# EAGLE library part ES8374 (library mastrogippo)
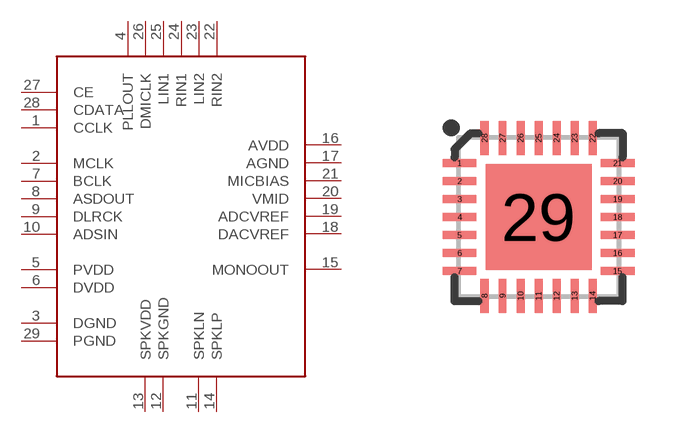
[diagram p39: symbol with the pads of QFNWB-28_4X4; footprint QFNWB-28_4X4]

Designator prefix -

## ES8374  [QFNWB-28_4X4]
1  CCLK
2  MCLK
3  DGND
4  PLLOUT
5  PVDD
6  DVDD
7  BCLK
8  ASDOUT
9  DLRCK
10  ADSIN
11  SPKLN
12  SPKGND
13  SPKVDD
14  SPKLP
15  MONOOUT
16  AVDD
17  AGND
18  DACVREF
19  ADCVREF
20  VMID
21  MICBIAS
22  RIN2
23  LIN2
24  RIN1
25  LIN1
26  DMICLK
27  CE
28  CDATA
29  PGND

## Footprint QFNWB-28_4X4 (pad centres in mm)
smd 0.85 x 0.2: 1 -1.975,1.35; 2 -1.975,0.9; 3 -1.975,0.45; 4 -1.975,0; 5 -1.975,-0.45; 6 -1.975,-0.9; 7 -1.975,-1.35; 15 1.975,-1.35; 16 1.975,-0.9; 17 1.975,-0.45; 18 1.975,0; 19 1.975,0.45; 20 1.975,0.9; 21 1.975,1.35
smd 0.2 x 0.85: 8 -1.35,-1.975; 9 -0.9,-1.975; 10 -0.45,-1.975; 11 0,-1.975; 12 0.45,-1.975; 13 0.9,-1.975; 14 1.35,-1.975; 22 1.35,1.975; 23 0.9,1.975; 24 0.45,1.975; 25 0,1.975; 26 -0.45,1.975; 27 -0.9,1.975; 28 -1.35,1.975
smd 2.65 x 2.65: 29 0,0